# EAGLE library part NESCONN (library gamepad-conn)
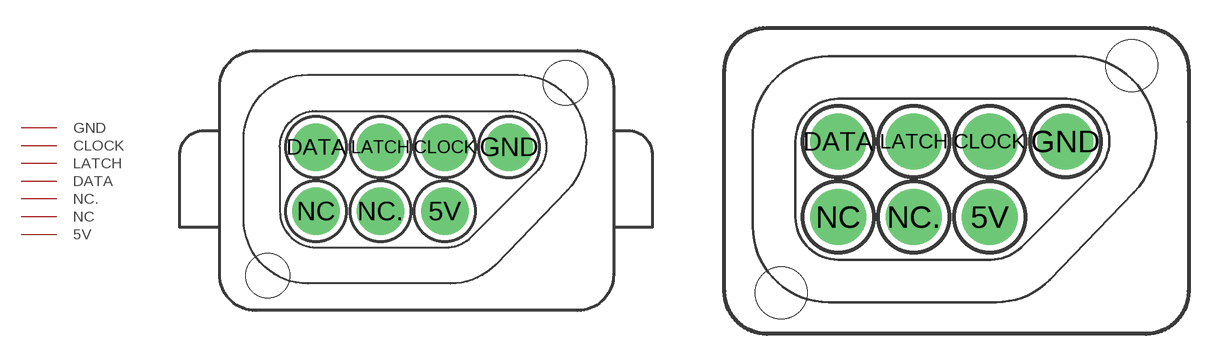
[diagram p1: symbol with the pads of NESCONN; footprints NESCONN, NESCONN_NO_TABS]

Designator prefix -

## NESCONN  [NESCONN]
5V  5V  pwr
CLOCK  CLOCK  in
DATA  DATA
GND  GND  in
LATCH  LATCH  in
NC  NC  nc
NC.  NC.  nc

## NESCONNNO_TABS  [NESCONN_NO_TABS]
Pads as for NESCONN

## Footprint NESCONN (pad centres in mm)
drill 2 pad 2.9: 5V 8.128,0; CLOCK 8.128,4.064; DATA 0,4.064; GND 12.192,4.064; LATCH 4.064,4.064; NC 0,0; NC. 4.064,0
hole 2.8 at -3.048,-4.064
hole 2.8 at 15.748,8.128

## Footprint NESCONN_NO_TABS (pad centres in mm)
drill 2 pad 2.9: 5V 8.128,0; CLOCK 8.128,4.064; DATA 0,4.064; GND 12.192,4.064; LATCH 4.064,4.064; NC 0,0; NC. 4.064,0
hole 2.8 at -3.048,-4.064
hole 2.8 at 15.748,8.128